# Altium footprint library MDD3A_MODULE.PcbLib: 2 footprints
Each footprint in its own frame and in the unit in brackets; x right, y up, seen from the top. Pads: shape width x height; smd on the part's side, far side on the other; paste and mask are expansions set on the pad; w line width, h text height; cw(c..) or ccw(c..) is an arc to the next point about the centre after c.
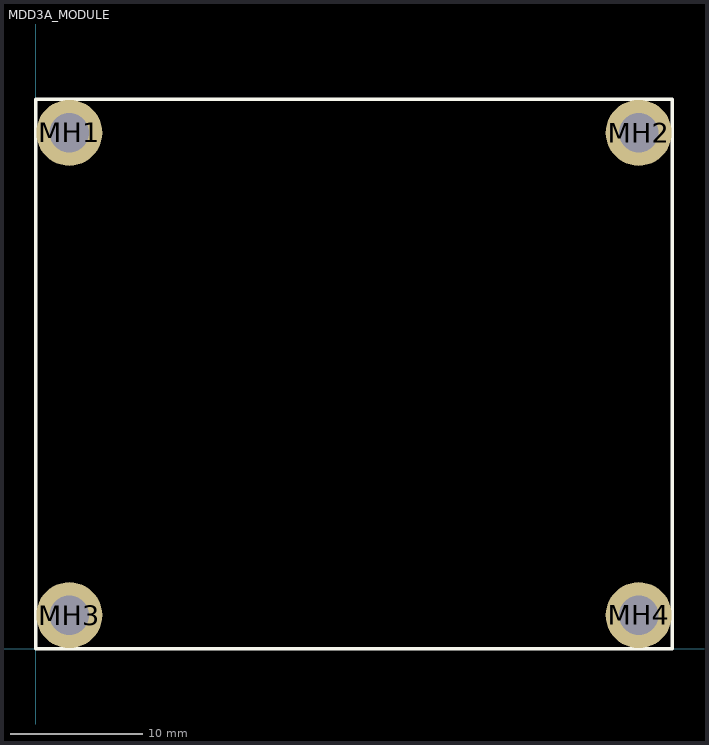
[diagram p0: the footprints below, top view; thin cyan lines are the x and y axes]

## MDD3A_MODULE [mm]
pads (4):
  round 5 hole 3: MH1(2.54,39.12) MH2(45.72,39.12) MH3(2.54,2.54) MH4(45.72,2.54)
Top Overlay:
  lines w0.254: 0,0 48.26,0 48.26,41.66 0,41.66 0,0

## PCBComponent_1 - duplicate [mm]